# Altium footprint library enmt301.PcbLib: 3 footprints
Each footprint in its own frame and in the unit in brackets; x right, y up, seen from the top. Pads: shape width x height; smd on the part's side, far side on the other; paste and mask are expansions set on the pad; w line width, h text height; cw(c..) or ccw(c..) is an arc to the next point about the centre after c.
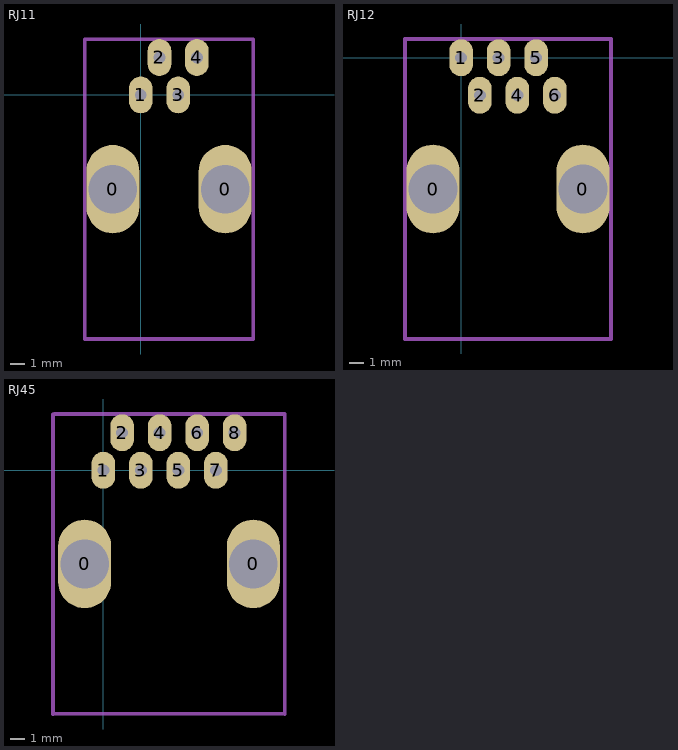
[diagram p0: the footprints below, top view; thin cyan lines are the x and y axes]

## RJ11 [mm]
pads (6):
  oval 3.6x6 hole 3.3: 0(-1.895,-6.39) 0(5.725,-6.39)
  oval 1.6x2.5 hole 0.8: 1(0,0) 2(1.27,2.54) 3(2.54,0) 4(3.81,2.54)
Mechanical 1:
  lines w0.254: -3.8,-16.55 7.63,-16.55 7.63,3.77 -3.8,3.77 -3.8,-16.55

## RJ12 [mm]
pads (8):
  oval 3.6x6 hole 3.3: 0(-1.905,-8.89) 0(8.255,-8.89)
  oval 1.6x2.5 hole 0.8: 1(0,0) 2(1.27,-2.54) 3(2.54,0) 4(3.81,-2.54) 5(5.08,0) 6(6.35,-2.54)
Mechanical 1:
  lines w0.254: 10.16,-10.16 10.16,1.27 -3.81,1.27 -3.81,-10.16 -3.81,-19.05 10.16,-19.05 10.16,-9.525

## RJ45 [mm]
pads (10):
  oval 3.6x6 hole 3.3: 0(-1.27,-6.35) 0(10.16,-6.35)
  oval 1.6x2.5 hole 0.8: 1(0,0) 2(1.27,2.54) 3(2.54,0) 4(3.81,2.54) 5(5.08,0) 6(6.35,2.54) 7(7.62,0) 8(8.89,2.54)
Mechanical 1:
  lines w0.254: -3.41,-16.52 -3.41,3.8 ; -3.41,-16.51 12.29,-16.51 ; -3.31,3.81 12.29,3.81 ; 12.29,-16.52 12.29,3.8